# EAGLE library part ADC121C021 (library texas)
ADC121C021 8-pin VSSOP package 1 channel, 12-bit I2C ADC Datasheet <http://www.ti.com/lit/ds/symlink/adc121c021.pdf>
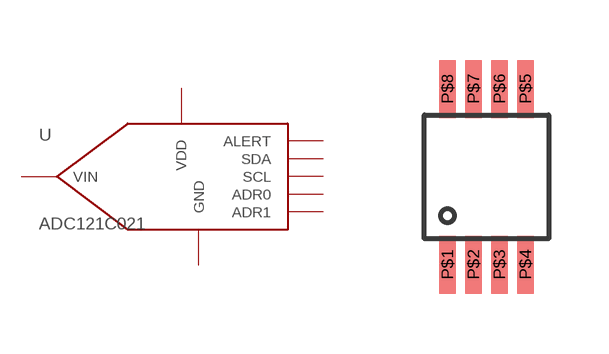
[diagram p133: symbol with the pads of VSSOP-8; footprint VSSOP-8]

Designator prefix -

## ADC121C021  [VSSOP-8]
P$1  SCL
P$2  ALERT
P$3  ADR0
P$4  VIN
P$5  VDD
P$6  ADR1
P$7  GND
P$8  SDA

## Footprint VSSOP-8 (pad centres in mm)
smd 0.42 x 1.45: P$1 -0.975,-2.2; P$2 -0.325,-2.2; P$3 0.325,-2.2; P$4 0.975,-2.2; P$5 0.975,2.2; P$6 0.325,2.2; P$7 -0.325,2.2; P$8 -0.975,2.2